# Altium schematic symbol library PIC(8)pinall.SchLib: 1 symbol
Pins are listed as number, name and electrical type; pins without a type are passive.

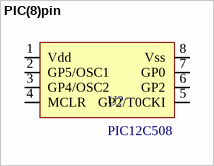
[diagram p0: symbol PIC(8)pin]

## PIC(8)pin
designator U?, comment PIC12C508
footprint PIC10F220
pins: 1 Vdd, 2 GP5/OSC1, 3 GP4/OSC2, 4 MCLR, 5 GP2/T0CKI, 6 GP2, 7 GP0, 8 Vss